# EAGLE library part 10PINSCREW (library untitled)
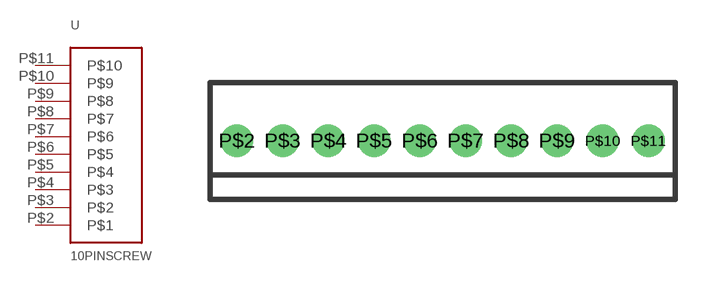
[diagram p3: symbol with the pads of 10PIN-SCREW; footprint 10PIN-SCREW]

Designator prefix -

## 10PINSCREW  [10PIN-SCREW]
P$2  P$1
P$3  P$2
P$4  P$3
P$5  P$4
P$6  P$5
P$7  P$6
P$8  P$7
P$9  P$8
P$10  P$9
P$11  P$10

## Footprint 10PIN-SCREW (pad centres in mm)
drill 1.2: P$2 -11.43,0; P$3 -8.89,0; P$4 -6.35,0; P$5 -3.81,0; P$6 -1.27,0; P$7 1.27,0; P$8 3.81,0; P$9 6.35,0; P$10 8.89,0; P$11 11.43,0